# Altium footprint library YMC14S-PCB.PcbLib: 1 footprints
Each footprint in its own frame and in the unit in brackets; x right, y up, seen from the top. Pads: shape width x height; smd on the part's side, far side on the other; paste and mask are expansions set on the pad; w line width, h text height; cw(c..) or ccw(c..) is an arc to the next point about the centre after c.
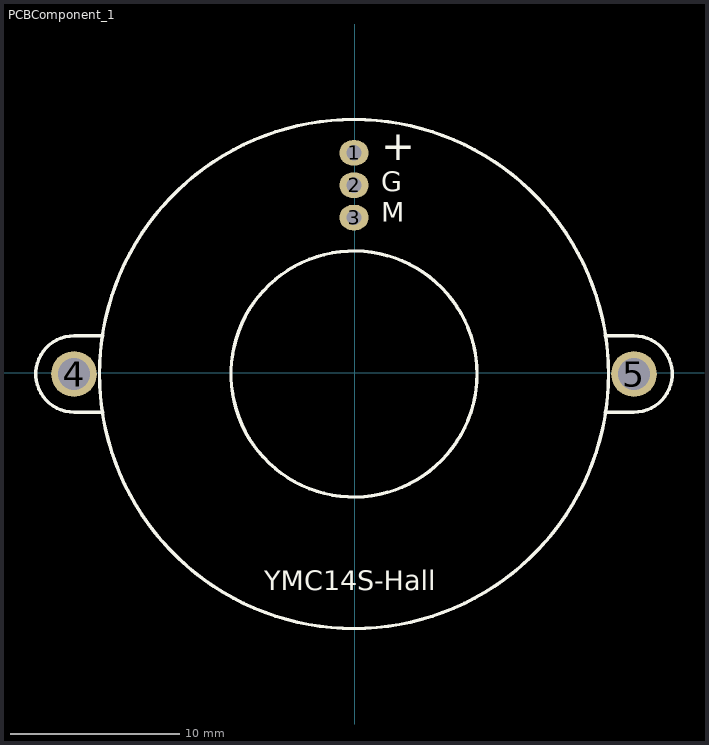
[diagram p0: the footprint, top view; thin cyan lines are the x and y axes]

## PCBComponent_1 [mm]
pads (5):
  oval 1.7x1.5 hole 0.9: 1(-0.043,12.951) 2(-0.043,11.046) 3(-0.043,9.141)
  round 2.7 hole 1.9: 4(-16.543,-0.079) 5(16.457,-0.079)
Top Overlay:
  circle w0.2: c-0.043,-0.079 r15
  circle w0.2: c-0.043,-0.079 r7.25
  lines w0.2: -14.843,-2.329 -16.543,-2.329 cw(c-16.543,-0.079) -16.543,2.171 -14.843,2.171 ; 14.757,-2.329 16.457,-2.329 ccw(c16.457,-0.079) 16.457,2.171 14.757,2.171
  text "M" at 1.557,8.521 h2
  text "+" at 1.557,11.921 h3
  text "G" at 1.557,10.321 h2
  text "YMC14S-Hall" at -5.334,-13.208 h2